# EAGLE library part SLIDE (library ME_433)
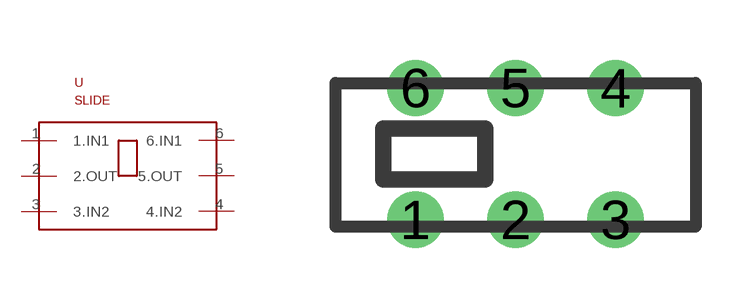
[diagram p7: symbol with the pads of SLIDE; footprint SLIDE]

Designator prefix -

## SLIDE  [SLIDE]
1  1.IN1
2  2.OUT
3  3.IN2
4  4.IN2
5  5.OUT
6  6.IN1

## Footprint SLIDE (pad centres in mm)
drill 0.9: 1 -2.5,-3.3; 2 0,-3.3; 3 2.5,-3.3; 4 2.5,0; 5 0,0; 6 -2.5,0